# Altium schematic symbol library LEPTON_3.5_ADAPTER.Schlib: 1 symbol
Pins are listed as number, name and electrical type; pins without a type are passive.

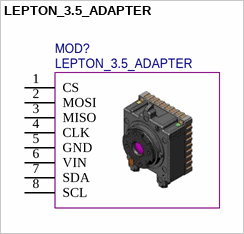
[diagram p0: symbol LEPTON_3.5_ADAPTER]

## LEPTON_3.5_ADAPTER
designator MOD?
pins: 1 CS, 2 MOSI, 3 MISO, 4 CLK, 5 GND, 6 VIN, 7 SDA, 8 SCL